# Altium schematic symbol library FET-P-Small.SchLib: 5 symbols
Pins are listed as number, name and electrical type; pins without a type are passive.

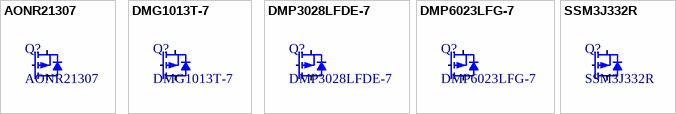
[diagram p0: symbols AONR21307 to SSM3J332R]

## AONR21307
designator Q?
MOSFET P-CH 30V 24A 8DFN; Supplier 1: Digi-Key; Supplier Part Number 1: 785-1796-2-ND; Volt: 30V; Package / Case: 8-DFN-EP (3x3); Mounted: Yes; Current: 24A; JLCPCB Part Number: C541711
footprint DFN8_3x3_EP_AOS
pins: 1 S, 2 S, 3 S, 4 G, 5 D, 6 D, 7 D, 8 D

## DMG1013T-7
designator Q?
MOSFET P-CH 20V 460MA SOT523; Supplier 1: Digi-Key; Supplier Part Number 1: DMG1013T-7DITR-ND; Volt: 20V; Package / Case: SOT-523; Mounted: Yes
footprint SOT-523 (SOT-523 from Diode AP02001)
pins: 1 G, 2 S, 3 D

## DMP3028LFDE-7
designator Q?
MOSFET P-CH 30V 6.8A 6UDFN; Supplier 1: Digi-Key; Supplier Part Number 1: DMP3028LFDE-7; Volt: 30V; Package / Case: 6UDFN; Mounted: Yes; Current: 6.8A
footprint U-DFN2020-6
pins: 1 D, 2 D, 3 G, 4 S, 5 D, 6 D

## DMP6023LFG-7
designator Q?
P-Channel 60 V 7.7A (Ta) 1W (Ta) Surface Mount POWERDI3333-8; Volt: 30V; Supplier 1: Digi-Key; Supplier Part Number 1: DMP6023LFG-7DICT-ND; Package / Case: 8-PowerVDFN; Mounted: Yes; Current: 7.7A
footprint DFN8_3x3_EP_AOS
pins: 1 S, 2 S, 3 S, 4 G, 5 D, 6 D, 7 D, 8 D

## SSM3J332R
designator Q?
P-Channel 30 V 6A (Ta) 1W (Ta) Surface Mount SOT-23F; Volt: 30V; Supplier 1: Digi-Key; Supplier Part Number 1: SSM3J332RLFCT-ND; Package / Case: SOT-523; Mounted: Yes; Current: 6A
footprint SOT-23-3 (SOT23-3, from TI DBZ (R-PDSO-G3))
pins: 1 G, 2 S, 3 D